# Altium schematic symbol library BWRC.SchLib: 47 symbols
Pins are listed as number, name and electrical type; pins without a type are passive.

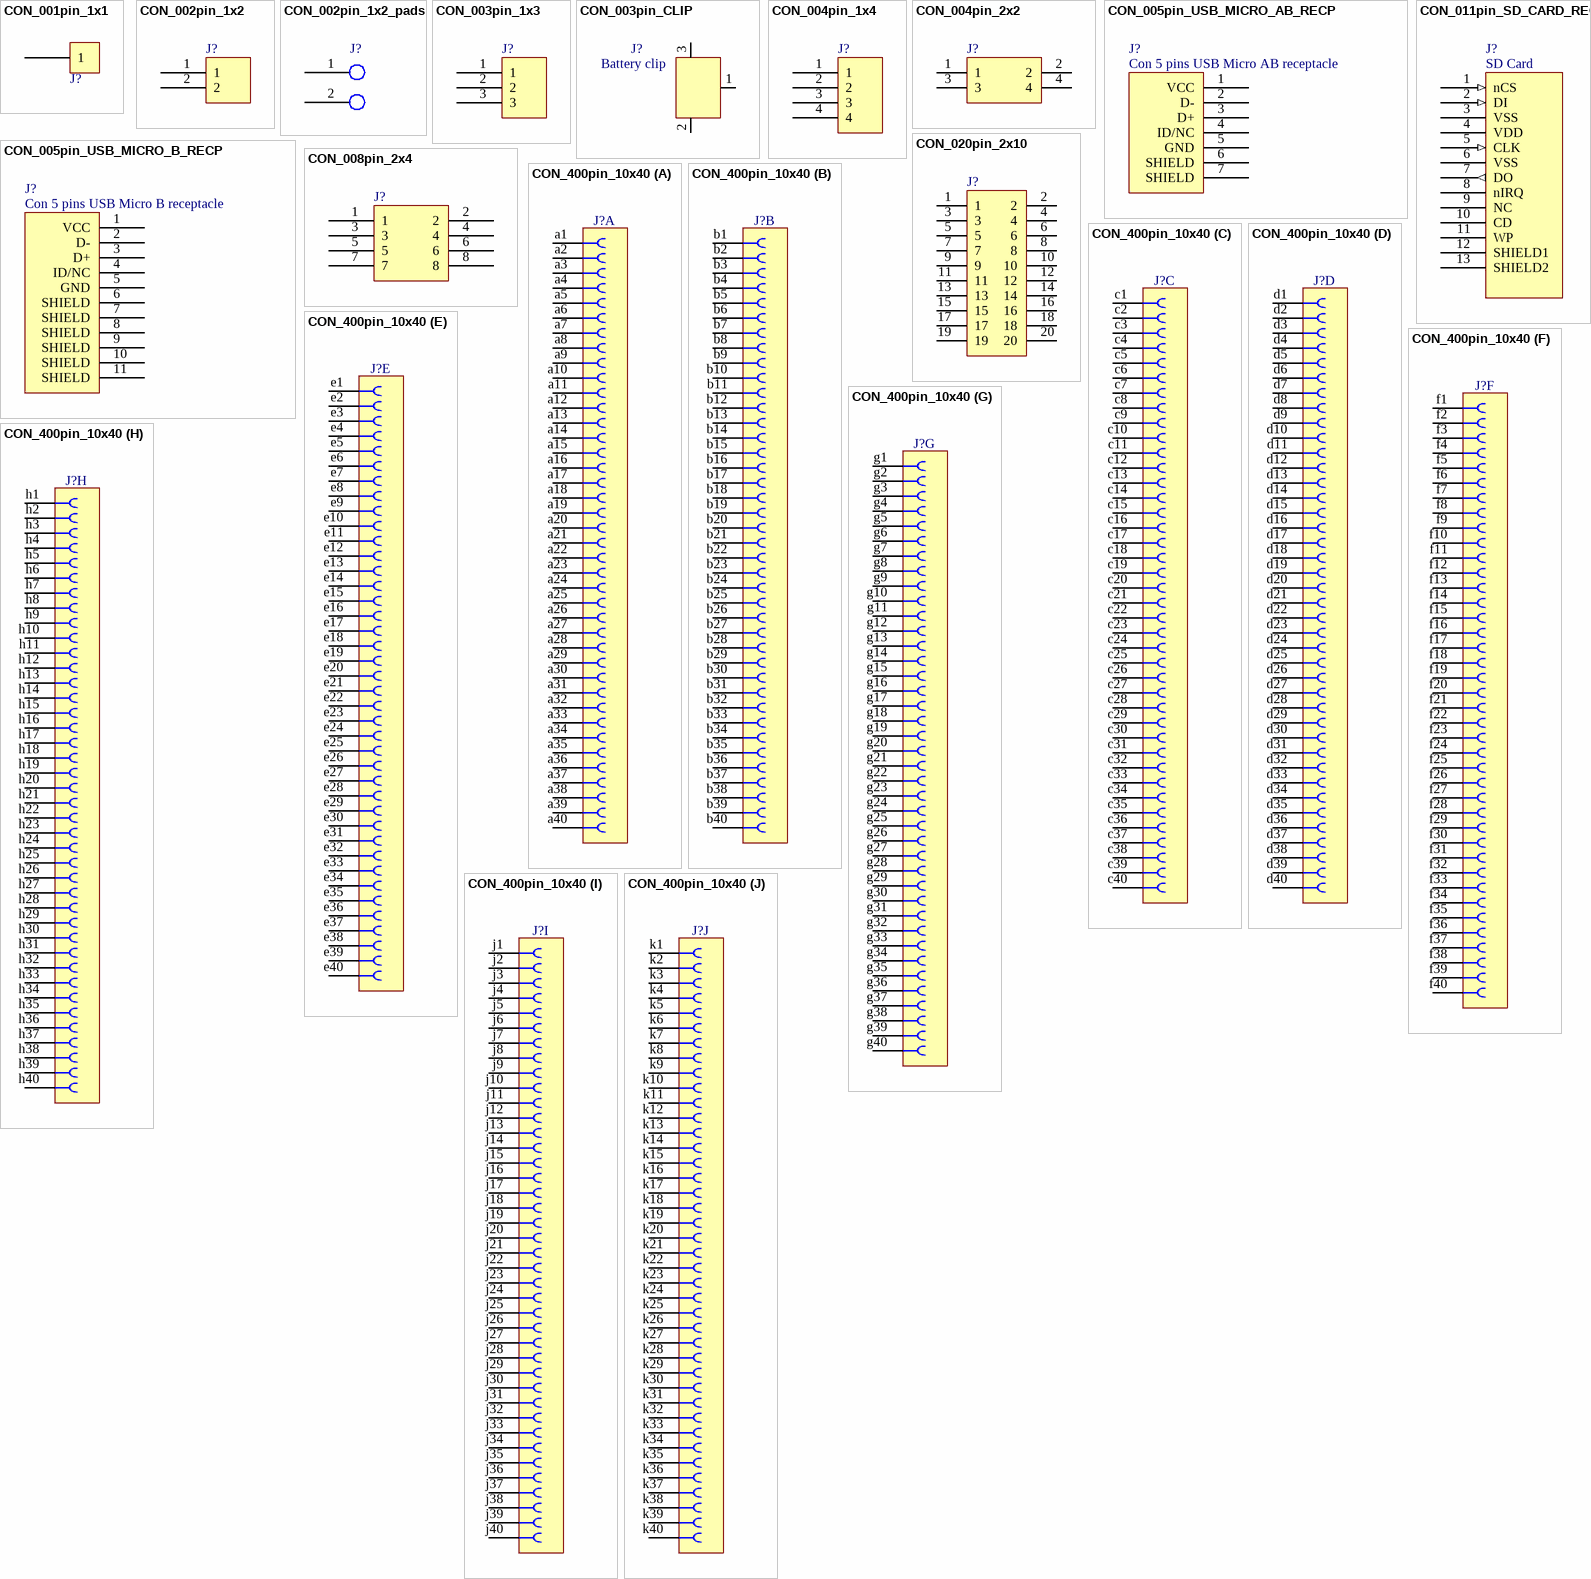
[diagram p0: symbols CON_001pin_1x1 to CON_400pin_10x40]

## CON_001pin_1x1
designator J?, comment Con 1 pin  (value not drawn)
pins: 1

## CON_002pin_1x2
designator J?, comment Con 2 pins  (value not drawn)
pins: 1, 2

## CON_002pin_1x2_pads
designator J?, comment Con 2 pads  (value not drawn)  (no BOM)
pins: 1, 2

## CON_003pin_1x3
designator J?, comment Con 3 pins  (value not drawn)
pins: 1, 2, 3

## CON_003pin_CLIP
designator J?, comment Battery clip
Con 3 pins battery clip
pins: 1, 2, 3

## CON_004pin_1x4
designator J?, comment Con 4 pins 1x4  (value not drawn)
pins: 1, 2, 3, 4

## CON_004pin_2x2
designator J?, comment Con 4 pins 2x2  (value not drawn)
pins: 1, 2, 3, 4

## CON_005pin_USB_MICRO_AB_RECP
designator J?, comment Con 5 pins USB Micro AB receptacle
Con 5 pins USB MicroAB receptacle
pins: 1 VCC, 2 D-, 3 D+, 4 ID/NC, 5 GND, 6 SHIELD, 7 SHIELD

## CON_005pin_USB_MICRO_B_RECP
designator J?, comment Con 5 pins USB Micro B receptacle
pins: 1 VCC, 2 D-, 3 D+, 4 ID/NC, 5 GND, 6 SHIELD, 7 SHIELD, 8 SHIELD, 9 SHIELD, 10 SHIELD, 11 SHIELD

## CON_008pin_2x4
designator J?, comment Con 8 pins 2x4  (value not drawn)
pins: 1, 2, 3, 4, 5, 6, 7, 8

## CON_011pin_SD_CARD_RECP
designator J?, comment SD Card
Con 11 pins secure digital card slot (normal size)
pins: 1 nCS (in), 2 DI (in), 3 VSS (power), 4 VDD (power), 5 CLK (in), 6 VSS (power), 7 DO (out), 8 nIRQ (oc), 9 NC (hiz), 10 CD, 11 WP, 12 SHIELD1, 13 SHIELD2

## CON_020pin_2x10
designator J?, comment Con 20 pins 2x10  (value not drawn)
pins: 1, 2, 3, 4, 5, 6, 7, 8, 9, 10, 11, 12, 13, 14, 15, 16, 17, 18, 19, 20

## CON_400pin_10x40
designator J?, comment Con 400 pins in 10 parts: abcdefghjk  (value not drawn)
part A pins: a1, a2, a3, a4, a5, a6, a7, a8, a9, a10, a11, a12, a13, a14, a15, a16, a17, a18, a19, a20, a21, a22, a23, a24, a25, a26, a27, a28, a29, a30, a31, a32, a33, a34, a35, a36, a37, a38, a39, a40
part B pins: b1, b2, b3, b4, b5, b6, b7, b8, b9, b10, b11, b12, b13, b14, b15, b16, b17, b18, b19, b20, b21, b22, b23, b24, b25, b26, b27, b28, b29, b30, b31, b32, b33, b34, b35, b36, b37, b38, b39, b40
part C pins: c1, c2, c3, c4, c5, c6, c7, c8, c9, c10, c11, c12, c13, c14, c15, c16, c17, c18, c19, c20, c21, c22, c23, c24, c25, c26, c27, c28, c29, c30, c31, c32, c33, c34, c35, c36, c37, c38, c39, c40
part D pins: d1, d2, d3, d4, d5, d6, d7, d8, d9, d10, d11, d12, d13, d14, d15, d16, d17, d18, d19, d20, d21, d22, d23, d24, d25, d26, d27, d28, d29, d30, d31, d32, d33, d34, d35, d36, d37, d38, d39, d40
part E pins: e1, e2, e3, e4, e5, e6, e7, e8, e9, e10, e11, e12, e13, e14, e15, e16, e17, e18, e19, e20, e21, e22, e23, e24, e25, e26, e27, e28, e29, e30, e31, e32, e33, e34, e35, e36, e37, e38, e39, e40
part F pins: f1, f2, f3, f4, f5, f6, f7, f8, f9, f10, f11, f12, f13, f14, f15, f16, f17, f18, f19, f20, f21, f22, f23, f24, f25, f26, f27, f28, f29, f30, f31, f32, f33, f34, f35, f36, f37, f38, f39, f40
part G pins: g1, g2, g3, g4, g5, g6, g7, g8, g9, g10, g11, g12, g13, g14, g15, g16, g17, g18, g19, g20, g21, g22, g23, g24, g25, g26, g27, g28, g29, g30, g31, g32, g33, g34, g35, g36, g37, g38, g39, g40
part H pins: h1, h2, h3, h4, h5, h6, h7, h8, h9, h10, h11, h12, h13, h14, h15, h16, h17, h18, h19, h20, h21, h22, h23, h24, h25, h26, h27, h28, h29, h30, h31, h32, h33, h34, h35, h36, h37, h38, h39, h40
part I pins: j1, j2, j3, j4, j5, j6, j7, j8, j9, j10, j11, j12, j13, j14, j15, j16, j17, j18, j19, j20, j21, j22, j23, j24, j25, j26, j27, j28, j29, j30, j31, j32, j33, j34, j35, j36, j37, j38, j39, j40
part J pins: k1, k2, k3, k4, k5, k6, k7, k8, k9, k10, k11, k12, k13, k14, k15, k16, k17, k18, k19, k20, k21, k22, k23, k24, k25, k26, k27, k28, k29, k30, k31, k32, k33, k34, k35, k36, k37, k38, k39, k40

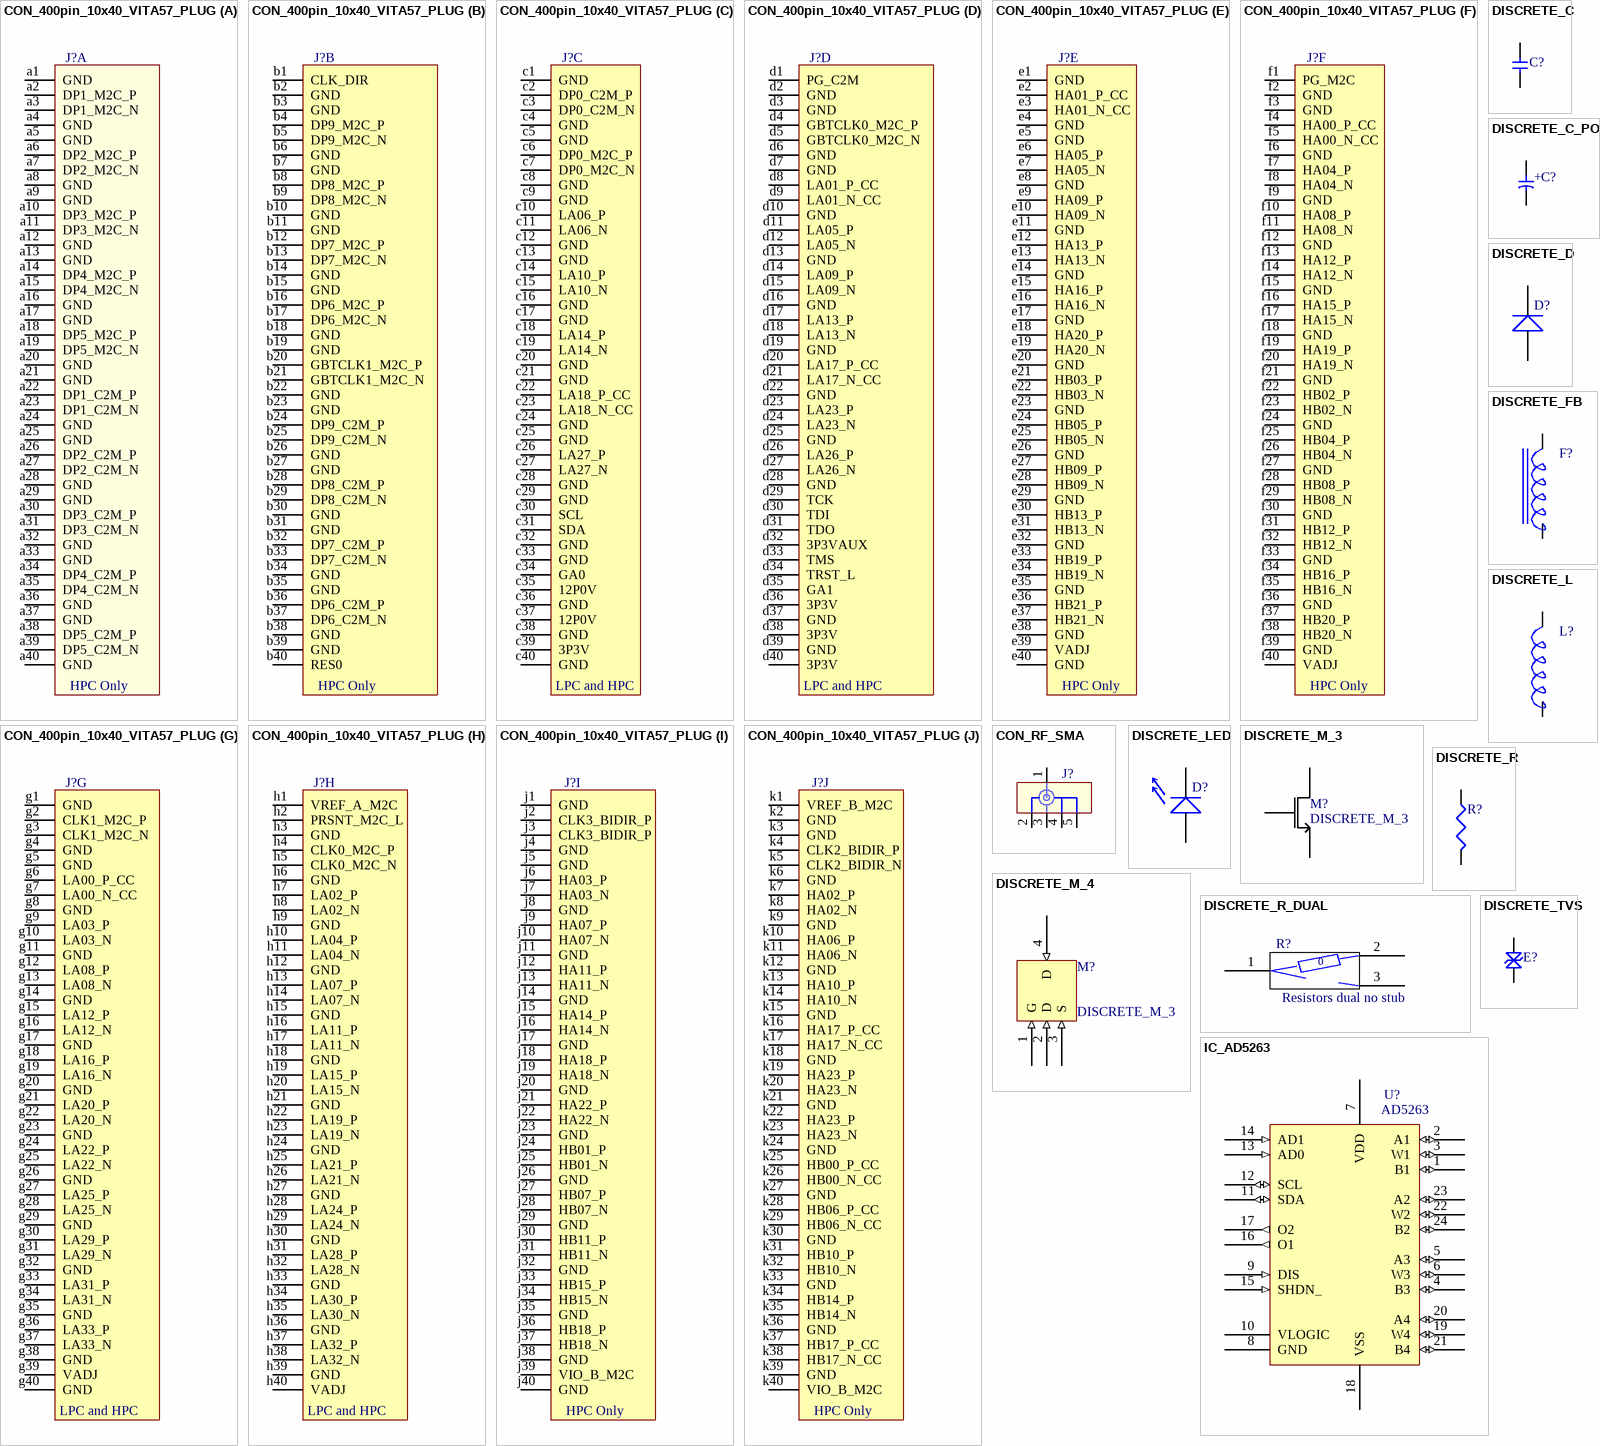
[diagram p1: symbols CON_400pin_10x40_VITA57_PLUG to IC_AD5263]

## CON_400pin_10x40_VITA57_PLUG
designator J?, comment Con 400 pins in 10 parts: abcdefghjk VITA 57  (value not drawn)
Con VITA 57, 400 male contacts in 10 parts abcdefghjk; Author: CERN DEM JLC
part A pins: a1 GND, a2 DP1_M2C_P, a3 DP1_M2C_N, a4 GND, a5 GND, a6 DP2_M2C_P, a7 DP2_M2C_N, a8 GND, a9 GND, a10 DP3_M2C_P, a11 DP3_M2C_N, a12 GND, a13 GND, a14 DP4_M2C_P, a15 DP4_M2C_N, a16 GND, a17 GND, a18 DP5_M2C_P, a19 DP5_M2C_N, a20 GND, a21 GND, a22 DP1_C2M_P, a23 DP1_C2M_N, a24 GND, a25 GND, a26 DP2_C2M_P, a27 DP2_C2M_N, a28 GND, a29 GND, a30 DP3_C2M_P, a31 DP3_C2M_N, a32 GND, a33 GND, a34 DP4_C2M_P, a35 DP4_C2M_N, a36 GND, a37 GND, a38 DP5_C2M_P, a39 DP5_C2M_N, a40 GND
part B pins: b1 CLK_DIR, b2 GND, b3 GND, b4 DP9_M2C_P, b5 DP9_M2C_N, b6 GND, b7 GND, b8 DP8_M2C_P, b9 DP8_M2C_N, b10 GND, b11 GND, b12 DP7_M2C_P, b13 DP7_M2C_N, b14 GND, b15 GND, b16 DP6_M2C_P, b17 DP6_M2C_N, b18 GND, b19 GND, b20 GBTCLK1_M2C_P, b21 GBTCLK1_M2C_N, b22 GND, b23 GND, b24 DP9_C2M_P, b25 DP9_C2M_N, b26 GND, b27 GND, b28 DP8_C2M_P, b29 DP8_C2M_N, b30 GND, b31 GND, b32 DP7_C2M_P, b33 DP7_C2M_N, b34 GND, b35 GND, b36 DP6_C2M_P, b37 DP6_C2M_N, b38 GND, b39 GND, b40 RES0
part C pins: c1 GND, c2 DP0_C2M_P, c3 DP0_C2M_N, c4 GND, c5 GND, c6 DP0_M2C_P, c7 DP0_M2C_N, c8 GND, c9 GND, c10 LA06_P, c11 LA06_N, c12 GND, c13 GND, c14 LA10_P, c15 LA10_N, c16 GND, c17 GND, c18 LA14_P, c19 LA14_N, c20 GND, c21 GND, c22 LA18_P_CC, c23 LA18_N_CC, c24 GND, c25 GND, c26 LA27_P, c27 LA27_N, c28 GND, c29 GND, c30 SCL, c31 SDA, c32 GND, c33 GND, c34 GA0, c35 12P0V, c36 GND, c37 12P0V, c38 GND, c39 3P3V, c40 GND
part D pins: d1 PG_C2M, d2 GND, d3 GND, d4 GBTCLK0_M2C_P, d5 GBTCLK0_M2C_N, d6 GND, d7 GND, d8 LA01_P_CC, d9 LA01_N_CC, d10 GND, d11 LA05_P, d12 LA05_N, d13 GND, d14 LA09_P, d15 LA09_N, d16 GND, d17 LA13_P, d18 LA13_N, d19 GND, d20 LA17_P_CC, d21 LA17_N_CC, d22 GND, d23 LA23_P, d24 LA23_N, d25 GND, d26 LA26_P, d27 LA26_N, d28 GND, d29 TCK, d30 TDI, d31 TDO, d32 3P3VAUX, d33 TMS, d34 TRST_L, d35 GA1, d36 3P3V, d37 GND, d38 3P3V, d39 GND, d40 3P3V
part E pins: e1 GND, e2 HA01_P_CC, e3 HA01_N_CC, e4 GND, e5 GND, e6 HA05_P, e7 HA05_N, e8 GND, e9 HA09_P, e10 HA09_N, e11 GND, e12 HA13_P, e13 HA13_N, e14 GND, e15 HA16_P, e16 HA16_N, e17 GND, e18 HA20_P, e19 HA20_N, e20 GND, e21 HB03_P, e22 HB03_N, e23 GND, e24 HB05_P, e25 HB05_N, e26 GND, e27 HB09_P, e28 HB09_N, e29 GND, e30 HB13_P, e31 HB13_N, e32 GND, e33 HB19_P, e34 HB19_N, e35 GND, e36 HB21_P, e37 HB21_N, e38 GND, e39 VADJ, e40 GND
part F pins: f1 PG_M2C, f2 GND, f3 GND, f4 HA00_P_CC, f5 HA00_N_CC, f6 GND, f7 HA04_P, f8 HA04_N, f9 GND, f10 HA08_P, f11 HA08_N, f12 GND, f13 HA12_P, f14 HA12_N, f15 GND, f16 HA15_P, f17 HA15_N, f18 GND, f19 HA19_P, f20 HA19_N, f21 GND, f22 HB02_P, f23 HB02_N, f24 GND, f25 HB04_P, f26 HB04_N, f27 GND, f28 HB08_P, f29 HB08_N, f30 GND, f31 HB12_P, f32 HB12_N, f33 GND, f34 HB16_P, f35 HB16_N, f36 GND, f37 HB20_P, f38 HB20_N, f39 GND, f40 VADJ
part G pins: g1 GND, g2 CLK1_M2C_P, g3 CLK1_M2C_N, g4 GND, g5 GND, g6 LA00_P_CC, g7 LA00_N_CC, g8 GND, g9 LA03_P, g10 LA03_N, g11 GND, g12 LA08_P, g13 LA08_N, g14 GND, g15 LA12_P, g16 LA12_N, g17 GND, g18 LA16_P, g19 LA16_N, g20 GND, g21 LA20_P, g22 LA20_N, g23 GND, g24 LA22_P, g25 LA22_N, g26 GND, g27 LA25_P, g28 LA25_N, g29 GND, g30 LA29_P, g31 LA29_N, g32 GND, g33 LA31_P, g34 LA31_N, g35 GND, g36 LA33_P, g37 LA33_N, g38 GND, g39 VADJ, g40 GND
part H pins: h1 VREF_A_M2C, h2 PRSNT_M2C_L, h3 GND, h4 CLK0_M2C_P, h5 CLK0_M2C_N, h6 GND, h7 LA02_P, h8 LA02_N, h9 GND, h10 LA04_P, h11 LA04_N, h12 GND, h13 LA07_P, h14 LA07_N, h15 GND, h16 LA11_P, h17 LA11_N, h18 GND, h19 LA15_P, h20 LA15_N, h21 GND, h22 LA19_P, h23 LA19_N, h24 GND, h25 LA21_P, h26 LA21_N, h27 GND, h28 LA24_P, h29 LA24_N, h30 GND, h31 LA28_P, h32 LA28_N, h33 GND, h34 LA30_P, h35 LA30_N, h36 GND, h37 LA32_P, h38 LA32_N, h39 GND, h40 VADJ
part I pins: j1 GND, j2 CLK3_BIDIR_P, j3 CLK3_BIDIR_P, j4 GND, j5 GND, j6 HA03_P, j7 HA03_N, j8 GND, j9 HA07_P, j10 HA07_N, j11 GND, j12 HA11_P, j13 HA11_N, j14 GND, j15 HA14_P, j16 HA14_N, j17 GND, j18 HA18_P, j19 HA18_N, j20 GND, j21 HA22_P, j22 HA22_N, j23 GND, j24 HB01_P, j25 HB01_N, j26 GND, j27 HB07_P, j28 HB07_N, j29 GND, j30 HB11_P, j31 HB11_N, j32 GND, j33 HB15_P, j34 HB15_N, j35 GND, j36 HB18_P, j37 HB18_N, j38 GND, j39 VIO_B_M2C, j40 GND
part J pins: k1 VREF_B_M2C, k2 GND, k3 GND, k4 CLK2_BIDIR_P, k5 CLK2_BIDIR_N, k6 GND, k7 HA02_P, k8 HA02_N, k9 GND, k10 HA06_P, k11 HA06_N, k12 GND, k13 HA10_P, k14 HA10_N, k15 GND, k16 HA17_P_CC, k17 HA17_N_CC, k18 GND, k19 HA23_P, k20 HA23_N, k21 GND, k22 HA23_P, k23 HA23_N, k24 GND, k25 HB00_P_CC, k26 HB00_N_CC, k27 GND, k28 HB06_P_CC, k29 HB06_N_CC, k30 GND, k31 HB10_P, k32 HB10_N, k33 GND, k34 HB14_P, k35 HB14_N, k36 GND, k37 HB17_P_CC, k38 HB17_N_CC, k39 GND, k40 VIO_B_M2C
part A text: HPC Only
part B text: HPC Only
part C text: LPC and HPC
part D text: LPC and HPC
part E text: HPC Only
part F text: HPC Only
part G text: LPC and HPC
part H text: LPC and HPC
part I text: HPC Only
part J text: HPC Only

## CON_RF_SMA
designator J?, comment Con RF SMA  (value not drawn)
pins: 1, 2, 3, 4, 5

## DISCRETE_C
designator C?
Capacitor generic
pins: 1, 2

## DISCRETE_C_POL
designator C?
Capacitor polarized
pins: 1, 2
text: +

## DISCRETE_D
designator D?
Diode generic
pins: 1, 2

## DISCRETE_FB
designator F?
Ferrite bead generic
pins: 1, 2

## DISCRETE_L
designator L?
Inductor generic
pins: 1, 2

## DISCRETE_LED
designator D?
LED generic
pins: 1, 2

## DISCRETE_M_3
designator M?
Transistor NMOS 3 pin
pins: 1 G, 2 S, 3 D

## DISCRETE_M_4
designator M?, comment DISCRETE_M_3
Transistor NMOS 4 pin
pins: 1 G (in), 2 D (in), 3 S (in), 4 D (in)

## DISCRETE_R
designator R?
Resistor generic
pins: 1, 2

## DISCRETE_R_DUAL
designator R?, comment Resistors dual no stub  (no BOM)
pins: 1, 2, 3
text: 0

## DISCRETE_TVS
designator E?, comment TVS ESD protection clamp  (value not drawn)
TVS ESD protection clamp generic
pins: 1, 2

## IC_AD5263
designator U?, comment AD5263
AD5263 potentiometer digital 4-output
pins: 1 B1 (io), 2 A1 (io), 3 W1 (io), 4 B3 (io), 5 A3 (io), 6 W3 (io), 7 VDD (power), 8 GND (power), 9 DIS (in), 10 VLOGIC (power), 11 SDA (io), 12 SCL (io), 13 AD0 (in), 14 AD1 (in), 15 SHDN_ (in), 16 O1 (out), 17 O2 (out), 18 VSS (power), 19 W4 (io), 20 A4 (io), 21 B4 (io), 22 W2 (io), 23 A2 (io), 24 B2 (io)

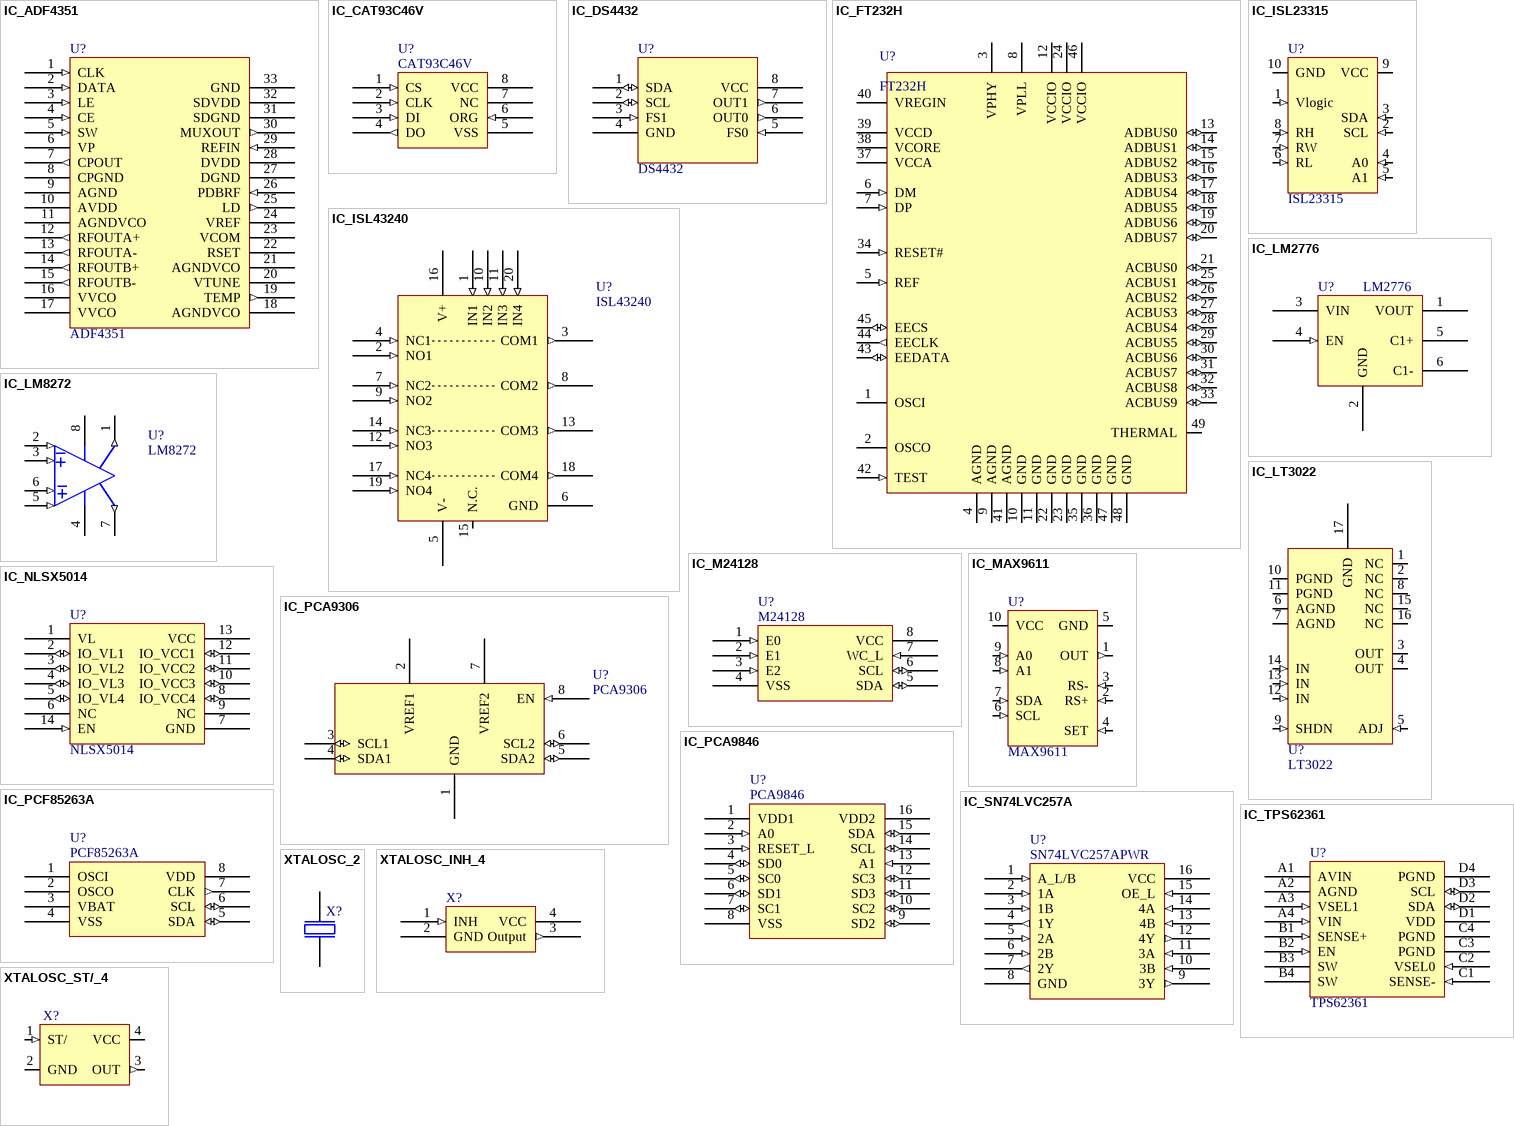
[diagram p2: symbols IC_ADF4351 to XTALOSC_ST/_4]

## IC_ADF4351
designator U?, comment ADF4351
ADF4351 synthesizer wideband
pins: 1 CLK (in), 2 DATA (in), 3 LE (in), 4 CE (in), 5 SW (in), 6 VP (power), 7 CPOUT (out), 8 CPGND (power), 9 AGND (power), 10 AVDD (power), 11 AGNDVCO (power), 12 RFOUTA+ (out), 13 RFOUTA- (out), 14 RFOUTB+ (out), 15 RFOUTB- (out), 16 VVCO (power), 17 VVCO (power), 18 AGNDVCO (power), 19 TEMP (out), 20 VTUNE, 21 AGNDVCO (power), 22 RSET, 23 VCOM, 24 VREF (hiz), 25 LD (out), 26 PDBRF (in), 27 DGND (power), 28 DVDD (power), 29 REFIN (in), 30 MUXOUT (out), 31 SDGND (power), 32 SDVDD (power), 33 GND (power)

## IC_CAT93C46V
designator U?, comment CAT93C46V
CAT93C46V EEPROM 1 Kb microwire serial
pins: 1 CS (in), 2 CLK (in), 3 DI (in), 4 DO (out), 5 VSS (power), 6 ORG (in), 7 NC, 8 VCC (power)

## IC_DS4432
designator U?, comment DS4432
DS4432 current source programmable I2C
pins: 1 SDA (io), 2 SCL (io), 3 FS1 (in), 4 GND (power), 5 FS0 (in), 6 OUT0 (out), 7 OUT1 (out), 8 VCC (power)

## IC_FT232H
designator U?, comment FT232H
FT232H USB to UART/FIFO single channel high speed multipurpose; ComponentLink1Description: Manufacturer URL; ComponentLink1URL: http://www.ftdichip.com/; ComponentLink2Description: Datasheet; ComponentLink2URL: http://www.ftdichip.com/Support/Documents/DataSheets/ICs/DS_FT232H.pdf
pins: 1 OSCI, 2 OSCO, 3 VPHY (power), 4 AGND (power), 5 REF (in), 6 DM (in), 7 DP (in), 8 VPLL (power), 9 AGND (power), 10 GND (power), 11 GND (power), 12 VCCIO (power), 13 ADBUS0 (io), 14 ADBUS1 (io), 15 ADBUS2 (io), 16 ADBUS3 (io), 17 ADBUS4 (io), 18 ADBUS5 (io), 19 ADBUS6 (io), 20 ADBUS7 (io), 21 ACBUS0 (io), 22 GND (power), 23 GND (power), 24 VCCIO (power), 25 ACBUS1 (io), 26 ACBUS2 (io), 27 ACBUS3 (io), 28 ACBUS4 (io), 29 ACBUS5 (io), 30 ACBUS6 (io), 31 ACBUS7 (io), 32 ACBUS8 (io), 33 ACBUS9 (io), 34 RESET# (in), 35 GND (power), 36 GND (power), 37 VCCA (power), 38 VCORE (power), 39 VCCD (power), 40 VREGIN (power), 41 AGND (power), 42 TEST (in), 43 EEDATA (io), 44 EECLK (out), 45 EECS (io), 46 VCCIO (power), 47 GND (power), 48 GND (power), 49 THERMAL

## IC_ISL23315
designator U?, comment ISL23315
ISL23315 potentiometer digital 10K 256 positions
pins: 1 Vlogic (in), 2 SCL (in), 3 SDA (in), 4 A0 (in), 5 A1 (in), 6 RL (in), 7 RW (in), 8 RH (in), 9 VCC (power), 10 GND (power)

## IC_ISL43240
designator U?, comment ISL43240
ISL43240 switch SPDT quad
pins: 1 IN1 (in), 2 NO1 (in), 3 COM1 (out), 4 NC1 (in), 5 V- (power), 6 GND (power), 7 NC2 (in), 8 COM2 (out), 9 NO2 (in), 10 IN2 (in), 11 IN3 (in), 12 NO3 (in), 13 COM3 (out), 14 NC3 (in), 15 N.C., 16 V+ (power), 17 NC4 (in), 18 COM4 (out), 19 NO4 (in), 20 IN4 (in)

## IC_LM2776
designator U?, comment LM2776
LM2776 voltage inverter
pins: 1 VOUT (power), 2 GND (power), 3 VIN (power), 4 EN (in), 5 C1+, 6 C1-

## IC_LM8272
designator U?, comment LM8272
LM8272 op-amp RRIO high output current & unlimited cap load
pins: 1 OUTA (out), 2 INA- (in), 3 INA+ (in), 4 V- (power), 5 INB+ (in), 6 INB- (in), 7 OUTB (out), 8 V+ (power)

## IC_LT3022
designator U?, comment LT3022
LT3022 regulator LDO adjustable 1A
pins: 1 NC (power), 2 NC (power), 3 OUT (power), 4 OUT (power), 5 ADJ (in), 6 AGND (power), 7 AGND (power), 8 NC (power), 9 SHDN (in), 10 PGND (power), 11 PGND (power), 12 IN (in), 13 IN (in), 14 IN (in), 15 NC (power), 16 NC (power), 17 GND (power)

## IC_M24128
designator U?, comment M24128
M24128 EEPROM 16KiB (128Kib) I2C
pins: 1 E0 (in), 2 E1 (in), 3 E2 (in), 4 VSS (power), 5 SDA (io), 6 SCL (io), 7 WC_L (in), 8 VCC (power)

## IC_MAX9611
designator U?, comment MAX9611
MAX9611 op-amp current sense 2.5MHz
pins: 1 OUT (out), 2 RS+ (in), 3 RS- (in), 4 SET (in), 5 GND (power), 6 SCL (in), 7 SDA (in), 8 A1 (in), 9 A0 (in), 10 VCC (power)

## IC_NLSX5014
designator U?, comment NLSX5014
NLSX5014 level shifter bidirectional 4-channel
pins: 1 VL (power), 2 IO_VL1 (io), 3 IO_VL2 (io), 4 IO_VL3 (io), 5 IO_VL4 (io), 6 NC (hiz), 7 GND (power), 8 IO_VCC4 (io), 9 NC (hiz), 10 IO_VCC3 (io), 11 IO_VCC2 (io), 12 IO_VCC1 (io), 13 VCC (power), 14 EN (in)

## IC_PCA9306
designator U?, comment PCA9306
PCA9306 level shifter I2C
pins: 1 GND (power), 2 VREF1 (power), 3 SCL1 (io), 4 SDA1 (io), 5 SDA2 (io), 6 SCL2 (io), 7 VREF2 (power), 8 EN (in)

## IC_PCA9846
designator U?, comment PCA9846
PCA9846 low voltage 4:1 mux with level-shifting I2C
pins: 1 VDD1 (power), 2 A0 (in), 3 RESET_L (in), 4 SD0 (io), 5 SC0 (io), 6 SD1 (io), 7 SC1 (io), 8 VSS (power), 9 SD2 (io), 10 SC2 (io), 11 SD3 (io), 12 SC3 (io), 13 A1 (in), 14 SCL (io), 15 SDA (io), 16 VDD2 (power)

## IC_PCF85263A
designator U?, comment PCF85263A
PCF85263A real time clock w/ battery input I2C
pins: 1 OSCI, 2 OSCO, 3 VBAT (power), 4 VSS (power), 5 SDA (io), 6 SCL (io), 7 CLK (out), 8 VDD (power)

## IC_SN74LVC257A
designator U?, comment SN74LVC257APWR
SN74LVC257 4x 2:1 mux with output enable
pins: 1 A_L/B (in), 2 1A (in), 3 1B (in), 4 1Y (out), 5 2A (in), 6 2B (in), 7 2Y (out), 8 GND (power), 9 3Y (out), 10 3B (in), 11 3A (in), 12 4Y (out), 13 4B (in), 14 4A (in), 15 OE_L (in), 16 VCC (power)

## IC_TPS62361
designator U?, comment TPS62361
TPS62361 regulator switching positive adjustable
pins: A1 AVIN (power), A2 AGND (power), A3 VSEL1 (in), A4 VIN (in), B1 SENSE+ (in), B2 EN (in), B3 SW, B4 SW, C1 SENSE- (in), C2 VSEL0 (in), C3 PGND (power), C4 PGND (power), D1 VDD (power), D2 SDA (io), D3 SCL (io), D4 PGND (power)

## XTALOSC_2
designator X?
Crystal 2 pins
pins: 1, 2

## XTALOSC_INH_4
designator X?
Oscillator w/inhibit 4 pins
pins: 1 INH (in), 2 GND (power), 3 Output (out), 4 VCC (power)

## XTALOSC_ST/_4
designator X?
Oscillator w/standby 4 pins
pins: 1 ST/ (in), 2 GND (power), 3 OUT (out), 4 VCC (power)